# Altium integrated library 5-1623927-8.IntLib: 1 symbol
Pins are listed as number, name and electrical type; pins without a type are passive.

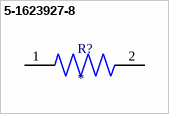
[diagram p0: symbol 5-1623927-8]

## 5-1623927-8
designator R?
CFR16 5% 10K; MP: 5-1623927-8; Package: None; Price: None; Value: *; Availability: Unavailable
footprint RESAD700W45L350D185
pins: 1, 2